# Altium schematic symbol library SCH - DIODES - ZENER AC.Schlib: 1 symbol
Pins are listed as number, name and electrical type; pins without a type are passive.

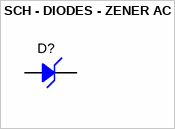
[diagram p0: symbol SCH - DIODES - ZENER AC]

## SCH - DIODES - ZENER AC
designator D?
footprint SOD123 (SOD-123; 2 Leads; Body 2.7 x 1.6 mm, (LxW))
pins: A, C